# EAGLE library part BERG_7 (library drag-custom)
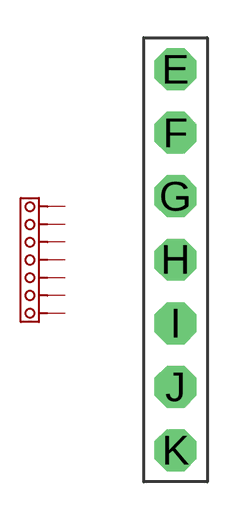
[diagram p6: symbol with the pads of BERG_7; footprint BERG_7]

Designator prefix -

## BERG_7  [BERG_7]
E  P$1
F  P$2
G  P$3
H  P$4
I  P$5
J  P$6
K  P$7

## Footprint BERG_7 (pad centres in mm)
drill 0.6 pad 1.676 octagon: E 0,7.62; F 0,5.08; G 0,2.54; H 0,0; I 0,-2.54; J 0,-5.08; K 0,-7.62